# EAGLE library part 74AC11240 (library 74ac-logic)
Octal BUFFER/DRIVER
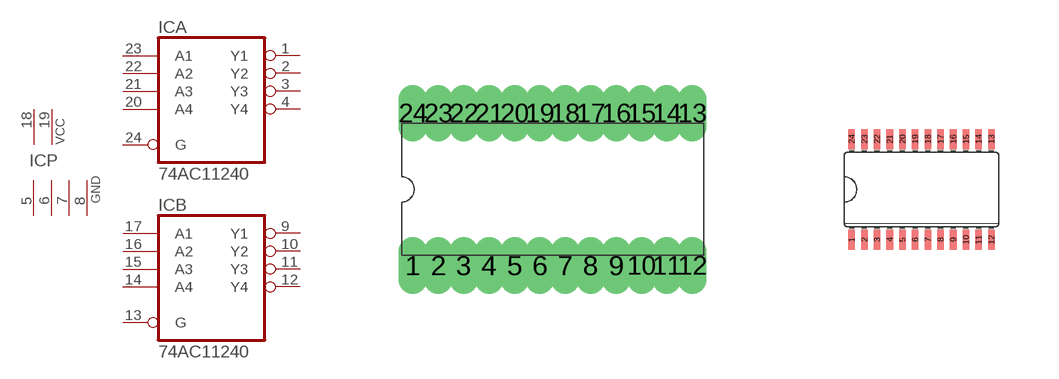
[diagram p30: symbol with the pads of DIL24-6; footprints DIL24-6, SO24W]

Designator prefix IC; gates A=7411240 B=7411240 P=2PWR4GND

## 74AC11240  [DIL24-6]
1  A:Y1  hiz
2  A:Y2  hiz
3  A:Y3  hiz
4  A:Y4  hiz
5  P:GND  pwr
6  P:GND  pwr
7  P:GND  pwr
8  P:GND  pwr
9  B:Y1  hiz
10  B:Y2  hiz
11  B:Y3  hiz
12  B:Y4  hiz
13  B:G  in
14  B:A4  in
15  B:A3  in
16  B:A2  in
17  B:A1  in
18  P:VCC  pwr
19  P:VCC  pwr
20  A:A4  in
21  A:A3  in
22  A:A2  in
23  A:A1  in
24  A:G  in

## 74AC11240D  [SO24W]
Pads as for DIL24-6

## Footprint DIL24-6 (pad centres in mm)
Dual In Line Package 0.6 inch
drill 0.203 long: 1 -3.493,-1.905; 2 -2.857,-1.905; 3 -2.223,-1.905; 4 -1.587,-1.905; 5 -0.953,-1.905; 6 -0.318,-1.905; 7 0.318,-1.905; 8 0.953,-1.905; 9 1.587,-1.905; 10 2.223,-1.905; 11 2.857,-1.905; 12 3.493,-1.905; 13 3.493,1.905; 14 2.857,1.905; 15 2.223,1.905; 16 1.587,1.905; 17 0.953,1.905; 18 0.318,1.905; 19 -0.318,1.905; 20 -0.953,1.905; 21 -1.587,1.905; 22 -2.223,1.905; 23 -2.857,1.905; 24 -3.493,1.905

## Footprint SO24W (pad centres in mm)
Wide Small Outline package 300 mil
smd 0.165 x 0.508: 1 -1.746,-1.257; 2 -1.429,-1.257; 3 -1.111,-1.257; 4 -0.794,-1.257; 5 -0.476,-1.257; 6 -0.159,-1.257; 7 0.159,-1.257; 8 0.476,-1.257; 9 0.794,-1.257; 10 1.111,-1.257; 11 1.429,-1.257; 12 1.746,-1.257; 13 1.746,1.257; 14 1.429,1.257; 15 1.111,1.257; 16 0.794,1.257; 17 0.476,1.257; 18 0.159,1.257; 19 -0.159,1.257; 20 -0.476,1.257; 21 -0.794,1.257; 22 -1.111,1.257; 23 -1.429,1.257; 24 -1.746,1.257